# Altium footprint library Smart Smoke Detector.PcbLib: 18 footprints (part 1 of 2)
Each footprint in its own frame and in the unit in brackets; x right, y up, seen from the top. Pads: shape width x height; smd on the part's side, far side on the other; paste and mask are expansions set on the pad; w line width, h text height; cw(c..) or ccw(c..) is an arc to the next point about the centre after c.
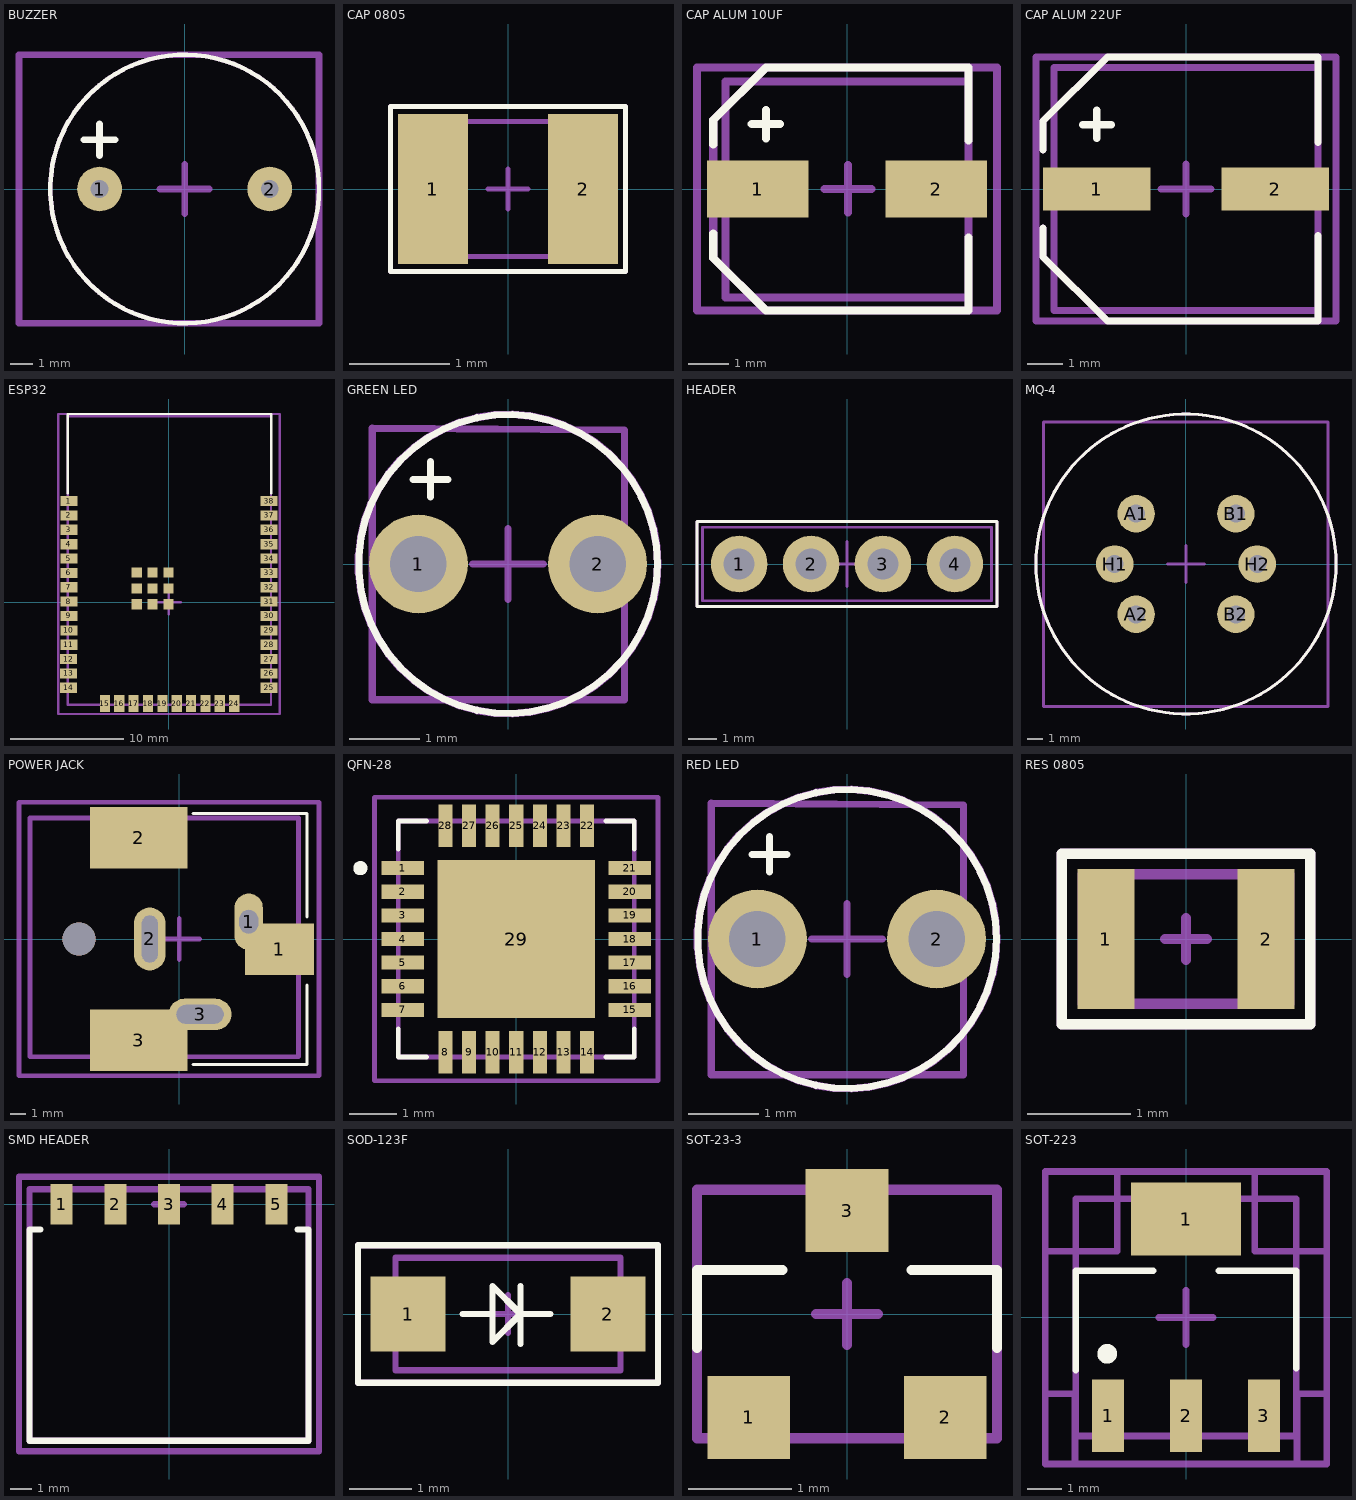
[diagram p0: the footprints below, top view; thin cyan lines are the x and y axes]

## BUZZER [mm]
pads (2):
  round 2 hole 0.8 mask+0.05: 1(-3.8,0) 2(3.8,0)
Top Overlay:
  circle w0.2: c0,0 r6
  lines w0.3: -4.5,2.2 -3.8,2.2 ; -3.8,1.5 -3.8,2.2 ; -3.8,2.9 -3.8,2.2 ; -3.1,2.2 -3.8,2.2
Top 3D Body:
  lines w0.3: -7.4,-6 -7.4,6 6,6 6,-6 -7.4,-6
Top Component Center:
  circle w0.2: c0,0 r6
  lines w0.3: -1.1,0 0,0 ; 0,-1.1 0,0 ; 0,1.1 0,0 ; 1.1,0 0,0
Top Designator:
  circle w0.2: c0,0 r6
  text ".Designator" at 0.1,-0.467 h1
3D body "AI-1223-TWT-3V-2-R.step": height 7.7, standoff -6.35, extent -7.428,-6 6.012,6

## CAP 0805 [mm]
pads (2):
  rect 0.7x1.5 smd mask+0.05: 1(-0.75,0) 2(0.75,0)
Top Overlay:
  lines w0.05: -1.175,-0.825 1.175,-0.825 1.175,0.825 -1.175,0.825 -1.175,-0.825
Top 3D Body:
  lines w0.05: -1,-0.675 1,-0.675 1,0.675 -1,0.675 -1,-0.675
Top Component Center:
  lines w0.05: -0.2,0 0,0 ; 0,-0.2 0,0 ; 0,0.2 0,0 ; 0.2,0 0,0 ; -1.175,-0.825 1.175,-0.825 1.175,0.825 -1.175,0.825 -1.175,-0.825
Top Designator:
  lines w0.05: -1.175,-0.825 1.175,-0.825 1.175,0.825 -1.175,0.825 -1.175,-0.825
  text ".Designator" at -0.17,-0.203 h0.5
3D body "CL21A475KAQNNNE.step": height 1.22, standoff -0.03, extent -1,-0.675 1,0.675

## CAP ALUM 10UF [mm]
pads (2):
  rect 2.5x1.4 smd mask+0.05: 1(-2.2,0) 2(2.2,0)
Top Overlay:
  lines w0.2: -3.3,-1.1 -3.3,-1.7 -2,-3 -1.2,-3 3,-3 3,-1.2 ; -3.3,1.1 -3.3,1.7 -2,3 -1.2,3 3,3 3,1.2 ; -2.35,1.6 -1.65,1.6 ; -2,1.25 -2,1.95
Top 3D Body:
  lines w0.2: -3,-2.675 3,-2.675 3,2.65 -3,2.65 -3,-2.675
Top Component Center:
  lines w0.2: -0.553,0 0.047,0 ; 0,0 0.6,0 ; 0.023,-0.577 0.023,0.023 ; 0.023,-0.011 0.023,0.589 ; -3.7,-3 -3.7,3 3.7,3 3.7,-3 -3.7,-3
Top Designator:
  lines w0.2: -3.3,-1.7 -2,-3 -1.2,-3 3,-3 3,1.2 3,3 -1.2,3 -2,3 -3.3,1.7 -3.3,1.1 -3.3,-1.7
  text ".Designator" at -0.2,-0.367 h1
3D body "Download_STP_87510535900x_rev1.stp": height 5.8, standoff 0, extent -3,-2.65 3,2.65

## CAP ALUM 22UF [mm]
pads (2):
  rect 3x1.2 smd mask+0.05: 1(-2.5,0) 2(2.5,0)
Top Overlay:
  lines w0.2: -4,-1.1 -4,-1.9 -2.2,-3.7 3.7,-3.7 3.7,-1.3 ; -4,1.1 -4,1.9 -2.2,3.7 3.7,3.7 3.7,1.3 ; -2.89,1.8 -2.09,1.8 ; -2.5,1.417 -2.5,2.217
Top 3D Body:
  lines w0.2: -3.7,-3.4 -3.7,3.4 3.7,3.4 3.7,-3.4 -3.7,-3.4
Top Component Center:
  lines w0.2: -0.7,0 0,0 ; 0,-0.7 0,0 ; 0,0.7 0,0 ; 0.7,0 0,0 ; -4.2,-3.7 4.2,-3.7 4.2,3.7 -4.2,3.7 -4.2,-3.7
Top Designator:
  lines w0.2: -4,-1.1 -4,-1.9 -2.2,-3.7 3.7,-3.7 3.7,3.7 -2.2,3.7 -4,1.9 -4,1.1
  text ".Designator" at -1,-0.167 h1
3D body "A766EB226M1DLAE060.step": height 6, standoff 0, extent -3.75,-3.4 3.75,3.4

## ESP32 [mm]
pads (47):
  rect 1.5x0.9 smd mask+0.05: 1(-8.834,8.951) 2(-8.834,7.681) 3(-8.834,6.411) 4(-8.834,5.141) 5(-8.834,3.871) 6(-8.834,2.601) 7(-8.834,1.331) 8(-8.834,0.061) 9(-8.834,-1.209) 10(-8.834,-2.479) 11(-8.834,-3.749) 12(-8.859,-5.019) 13(-8.859,-6.289) 14(-8.859,-7.559) 25(8.859,-7.559) 26(8.859,-6.289) 27(8.859,-5.019) 28(8.859,-3.749) 29(8.859,-2.479) 30(8.859,-1.209) 31(8.859,0.061) 32(8.859,1.331) 33(8.859,2.601) 34(8.859,3.871) 35(8.859,5.141) 36(8.859,6.411) 37(8.859,7.681) 38(8.859,8.951)
  rect 0.9x1.5 smd mask+0.05: 15(-5.649,-8.951) 16(-4.379,-8.951) 17(-3.109,-8.951) 18(-1.839,-8.951) 19(-0.569,-8.951) 20(0.701,-8.951) 21(1.971,-8.951) 22(3.241,-8.951) 23(4.511,-8.951) 24(5.781,-8.951)
  rect 0.9x0.9 smd mask+0.05: ""(-2.839,-0.176) ""(-2.839,1.224) ""(-2.839,2.624) ""(-1.439,-0.176) ""(-1.439,1.224) ""(-1.439,2.624) ""(-0.039,-0.176) ""(-0.039,1.224) ""(-0.039,2.624)
Top Overlay:
  lines w0.2: -8.925,9.625 -8.925,16.65 1.075,16.65 9.05,16.65 9.05,9.625
Top 3D Body:
  lines w0.2: -8.934,-9.049 9.041,-9.049 9.041,16.451 -8.934,16.451 -8.934,-9.049
Top Component Center:
  lines w0.2: -1.05,0 0,0 ; 0,-1.05 0,0 ; 0,1.05 0,0 ; 1.05,0 0,0 ; -9.784,-9.874 9.816,-9.874 9.816,16.651 -9.784,16.651 -9.784,-9.874
Top Designator:
  lines w0.2: -9.784,-9.874 9.816,-9.874 9.816,16.651 -9.784,16.651 -9.784,-9.874
  text ".Designator" at -3.225,0.766 h5
3D body "ESP32-WROOM-32E-H4.STEP": height 3.25, standoff 0, extent -8.941,-9.059 9.059,16.441

## GREEN LED [mm]
pads (2):
  round 1.4 hole 0.8 mask+0.102: 1(-1.27,0) 2(1.27,0)
Top Overlay:
  circle w0.1: c0,0 r2.119
  lines w0.1: -1.35,1.2 -0.85,1.2 ; -1.1,0.95 -1.1,1.45
Top 3D Body:
  lines w0.1: -1.925,-1.925 -1.925,1.925 1.65,1.9 1.65,-1.925 -1.925,-1.925
Top Component Center:
  circle w0.1: c0,0 r2.127
  lines w0.1: -0.5,0 0,0 ; 0,-0.5 0,0 ; 0,0.5 0,0 ; 0.5,0 0,0
Top Designator:
  circle w0.1: c0,0 r2.118
  text ".Designator" at -0.3,-0.508 h1.4
3D body "151031VS06000.stp": height 5.5, standoff -26.2, extent -1.925,-1.917 1.645,1.917

## HEADER [mm]
pads (4):
  round 2 hole 1.1 mask+0.102: 1(-3.81,0) 2(-1.27,0) 3(1.27,0) 4(3.81,0)
Top Overlay:
  lines w0.1: -5.3,-1.5 -5.3,1.5 5.3,1.5 5.3,-1.5 -5.3,-1.5
Top 3D Body:
  lines w0.1: -5.1,-1.3 -5.1,1.3 5.1,1.3 5.1,-1.3 -5.1,-1.3
Top Component Center:
  lines w0.1: -5.3,1.4 cw(c-5.2,1.4) -5.2,1.5 ; -0.8,0 0,0 ; 0,-0.8 0,0 ; 0,0.8 0,0 ; 0.8,0 0,0 ; -5.3,-1.5 -5.3,1.5 5.3,1.5 5.3,-1.5 -5.3,-1.5
Top Designator:
  lines w0.1: -5.3,-1.5 -5.3,1.5 5.3,1.5 5.3,-1.5 -5.3,-1.5
  text ".Designator" at 1.2,-0.733 h1.4
3D body "61300411121_Download_STP_61300411121_rev1.stp": height 8.57, standoff -2.97, extent -5.08,-1.27 5.08,1.27

## MQ-4 [mm]
pads (6):
  round 2.5 hole 1.2 mask+0.05: A1(-3.325,3.35) A2(-3.325,-3.35) B1(3.325,3.35) B2(3.325,-3.35) H1(-4.75,0) H2(4.75,0)
Top Overlay:
  circle w0.2: c0,0 r10
Top 3D Body:
  lines w0.2: -9.5,-9.5 -9.5,9.475 9.475,9.475 9.475,-9.5 -9.5,-9.5
Top Component Center:
  circle w0.2: c0,0 r10
  lines w0.2: -1.225,0 0,0 ; 0,-1.225 0,0 ; 0,1.225 0,0 ; 1.225,0 0,0
Top Designator:
  circle w0.2: c0,0 r10
  text ".Designator" at -1.625,-2.592 h4
3D body "SEN-09404.stp": height 15.5, standoff -9.2, extent -9.5,-9.51 9.5,9.481

## POWER JACK [mm]
pads (7):
  oval 1.8x3.6 hole 1.2 slot 1.5 at 90 deg: 1(4.425,1.1)
  rect 4.4x3.3 smd: 1(6.375,-0.65)
  rect 6.2x3.9 smd: 2(-2.575,6.45) 3(-2.575,-6.45)
  oval 2x4 hole 1 slot 3 at 90 deg: 2(-1.875,0)
  oval 4x2 hole 1.2 slot 3 at 0 deg: 3(1.325,-4.8)
  round 2.1 hole 2.1 unplated: ""(-6.375,0)
Top Overlay:
  lines w0.2: 0.889,-8.001 8.128,-8.001 8.128,-2.921 ; 0.889,8.001 8.128,8.001 8.128,1.397
Top 3D Body:
  lines w0.3: -9.5,-7.5 -9.5,7.7 7.6,7.7 7.6,-7.5 -9.5,-7.5
Top Component Center:
  lines w0.3: -1.3,0 0,0 ; 0,-1.3 0,0 ; 0,1.3 0,0 ; 1.3,0 0,0 ; -10.2,-8.7 -10.2,8.7 8.9,8.7 8.9,-8.7 -10.2,-8.7
Top Designator:
  lines w0.3: -10.2,-8.7 8.9,-8.7 8.9,8.7 -10.2,8.7 -10.2,-8.7
  text ".Designator" at -1,-2.1 h3
3D body "PJ-037AH-SMT-TR.stp": height 11, standoff -3.4, extent -9.541,-7.529 7.559,7.671

## QFN-28 [mm]
pads (29):
  rect 0.9x0.3 smd mask+0.05: 1(-2.4,1.5) 2(-2.4,1) 3(-2.4,0.5) 4(-2.4,0) 5(-2.4,-0.5) 6(-2.4,-1) 7(-2.4,-1.5) 15(2.4,-1.5) 16(2.4,-1) 17(2.4,-0.5) 18(2.4,0) 19(2.4,0.5) 20(2.4,1) 21(2.4,1.5)
  rect 0.3x0.9 smd mask+0.05: 8(-1.5,-2.4) 9(-1,-2.4) 10(-0.5,-2.4) 11(0,-2.4) 12(0.5,-2.4) 13(1,-2.4) 14(1.5,-2.4) 22(1.5,2.4) 23(1,2.4) 24(0.5,2.4) 25(0,2.4) 26(-0.5,2.4) 27(-1,2.4) 28(-1.5,2.4)
  rect 3.34x3.34 smd mask+0.05: 29(0,0)
Top Overlay:
  circle w0.2: c-3.3,1.5 r0.05
  lines w0.1: -2.5,-1.9 -2.5,-2.5 -1.9,-2.5 ; -2.5,1.9 -2.5,2.5 -1.9,2.5 ; 1.9,-2.5 2.5,-2.5 2.5,-1.9 ; 1.9,2.5 2.5,2.5 2.5,1.9
Top 3D Body:
  lines w0.1: -2.5,-2.5 -2.5,2.5 2.5,2.5 2.5,-2.5 -2.5,-2.5
Top Component Center:
  lines w0.1: -0.5,0 0,0 ; 0,-0.5 0,0 ; 0,0.5 0,0 ; 0.5,0 0,0 ; -3,-3 -3,3 3,3 3,-3 -3,-3
Top Designator:
  lines w0.1: -3,-3 -3,3 3,3 3,-3 -3,-3
  text ".Designator" at 0,-0.567 h1
3D body "CP2102N-A02-GQFN28.step": height 0.77, standoff -0.03, extent -2.5,-2.5 2.5,2.5

## RED LED [mm]
pads (2):
  round 1.4 hole 0.8 mask+0.102: 1(-1.27,0) 2(1.27,0)
Top Overlay:
  circle w0.1: c0,0 r2.119
  lines w0.1: -1.35,1.2 -0.85,1.2 ; -1.1,0.95 -1.1,1.45
Top 3D Body:
  lines w0.1: -1.925,-1.925 -1.925,1.925 1.65,1.9 1.65,-1.925 -1.925,-1.925
Top Component Center:
  circle w0.1: c0,0 r2.127
  lines w0.1: -0.5,0 0,0 ; 0,-0.5 0,0 ; 0,0.5 0,0 ; 0.5,0 0,0
Top Designator:
  circle w0.1: c0,0 r2.118
  text ".Designator" at -0.3,-0.508 h1.4
3D body "151031VS06000.stp": height 5.5, standoff -26.2, extent -1.925,-1.917 1.645,1.917

## RES 0805 [mm]
pads (2):
  rect 0.55x1.35 smd mask+0.05: 1(-0.775,0) 2(0.775,0)
Top Overlay:
  lines w0.1: -1.2,-0.825 -1.2,0.825 1.2,0.825 1.2,-0.825 -1.2,-0.825
Top 3D Body:
  lines w0.1: -1,-0.625 -1,0.625 1,0.625 1,-0.625 -1,-0.625
Top Component Center:
  lines w0.1: -0.2,0 0,0 ; 0,-0.2 0,0 ; 0,0.2 0,0 ; 0.2,0 0,0 ; -1.2,-0.825 -1.2,0.825 1.2,0.825 1.2,-0.825 -1.2,-0.825
Top Designator:
  lines w0.1: -1.2,-0.825 -1.2,0.825 1.2,0.825 1.2,-0.825 -1.2,-0.825
  text ".Designator" at -0.295,-0.295 h0.6
3D body "RC0805FR-07100RL.step": height 0.6, standoff 0, extent -1,-0.625 1,0.625

## SMD HEADER [mm]
pads (5):
  rect 1.04x1.91 smd mask+0.05: 1(-5.08,0) 2(-2.54,0) 3(0,0) 4(2.54,0) 5(5.08,0)
Top Overlay:
  lines w0.3: -6.1,-1.2 -6.6,-1.2 -6.6,-11.2 6.6,-11.2 6.6,-1.2 6.1,-1.2
Top 3D Body:
  lines w0.3: -6.6,-11.2 6.6,-11.2 6.6,0.7 -6.6,0.7 -6.6,-11.2
Top Component Center:
  lines w0.3: -0.7,0 0,0 ; 0,-0.7 0,0 ; 0,0.7 0,0 ; 0.7,0 0,0 ; -7.1,-11.7 7.1,-11.7 7.1,1.3 -7.1,1.3 -7.1,-11.7
Top Designator:
  lines w0.3: -7.1,-11.7 -7.1,1.3 7.1,1.3 7.1,-11.7 -7.1,-11.7
  text ".Designator" at -0.5,-5.434 h2
3D body "SAMTEC-SMH-105-02-X-S.step": height 2.41, standoff -0.01, extent -6.604,-11.209 6.604,0.729

## SOD-123F [mm]
pads (2):
  rect 1.2x1.2 smd mask+0.05: 1(-1.6,0) 2(1.6,0)
Top Overlay:
  lines w0.1: -0.725,0 -0.25,0 ; 0.2,-0.475 0.2,0 ; 0.2,0.45 0.2,0 ; 0.675,0 0.2,0 ; -0.25,0 -0.25,-0.45 0.2,0 ; -0.25,0 -0.25,0.45 0.2,0 ; -2.4,-1.1 2.4,-1.1 2.4,1.1 -2.4,1.1 -2.4,-1.1
Top 3D Body:
  lines w0.1: -1.8,-0.9 1.8,-0.9 1.8,0.9 -1.8,0.9 -1.8,-0.9
Top Component Center:
  lines w0.1: -0.3,0 0,0 ; 0,-0.3 0,0 ; 0,0.3 0,0 ; 0.3,0 0,0 ; -2.4,-1.1 -2.4,1.1 2.4,1.1 2.4,-1.1 -2.4,-1.1
Top Designator:
  lines w0.1: -2.4,-1.1 -2.4,1.1 2.4,1.1 2.4,-1.1 -2.4,-1.1
  text ".Designator" at -0.2,-0.233 h0.8
3D body "1N5819W.STEP": height 1.1, standoff 0, extent -1.8,-0.9 1.8,0.9

## SOT-23-3 [mm]
pads (3):
  rect 0.8x0.8 smd mask+0.05: 1(-0.95,-1) 2(0.95,-1) 3(0,1)
Top Overlay:
  lines w0.1: -1.45,-0.325 -1.45,0.425 -0.625,0.425 ; 0.625,0.425 1.45,0.425 1.45,-0.325
Top 3D Body:
  lines w0.1: -1.45,-1.2 -1.45,1.2 1.45,1.2 1.45,-1.2 -1.45,-1.2
Top Component Center:
  lines w0.1: -0.3,0 0,0 ; 0,-0.3 0,0 ; 0,0.3 0,0 ; 0.3,0 0,0 ; -1.45,-1.2 -1.45,1.2 1.45,1.2 1.45,-1.2 -1.45,-1.2
Top Designator:
  lines w0.1: -1.45,-1.2 -1.45,1.2 1.45,1.2 1.45,-1.2 -1.45,-1.2
  text ".Designator" at -0.225,-0.275 h0.6
3D body "MMBT3904-7-F.STEP": height 1.12, standoff 0, extent -1.5,-1.21 1.5,1.21

## SOT-223 [mm]
pads (4):
  rect 0.95x2.15 smd mask+0.102: 1(-2.3,-2.9) 2(0,-2.9) 3(2.3,-2.9)
  rect 3.25x2.15 smd mask+0.102: 1(0,2.9)
Top Overlay:
  circle w0.4: c-2.325,-1.075 r0.09
  lines w0.2: -3.25,-1.55 -3.25,1.375 -0.975,1.375 ; 0.975,1.375 3.25,1.375 3.25,-1.5
Top 3D Body:
  lines w0.2: -3.25,-3.5 3.25,-3.5 3.25,3.5 -3.25,3.5 -3.25,-3.5
Top Component Center:
  lines w0.2: -0.802,-0.006 -0.002,-0.006 ; 0,-0.8 0,0 ; 0,0.8 0,0 ; 0.8,0 0,0 ; -4.15,-2.25 -3.275,-2.25 -3.275,-4.325 3.275,-4.325 3.275,-2.25 4.15,-2.25 4.15,1.95 2.025,1.95 2.025,4.3 -2.025,4.3 -2.025,1.95 -4.15,1.95 -4.15,-2.25
Top Designator:
  lines w0.2: -4.15,-4.325 4.15,-4.325 4.15,4.3 2.025,4.3 -4.15,4.3 -4.15,-4.325
  text ".Designator" at -0.4,-0.808 h1.4
3D body "AMS1117-3.3.STEP": height 1.8, standoff 0, extent -3.251,-3.499 3.251,3.499